# Altium footprint library Fancy.PcbLib: 119 footprints (part 6 of 8)
Each footprint in its own frame and in the unit in brackets; x right, y up, seen from the top. Pads: shape width x height; smd on the part's side, far side on the other; paste and mask are expansions set on the pad; w line width, h text height; cw(c..) or ccw(c..) is an arc to the next point about the centre after c.
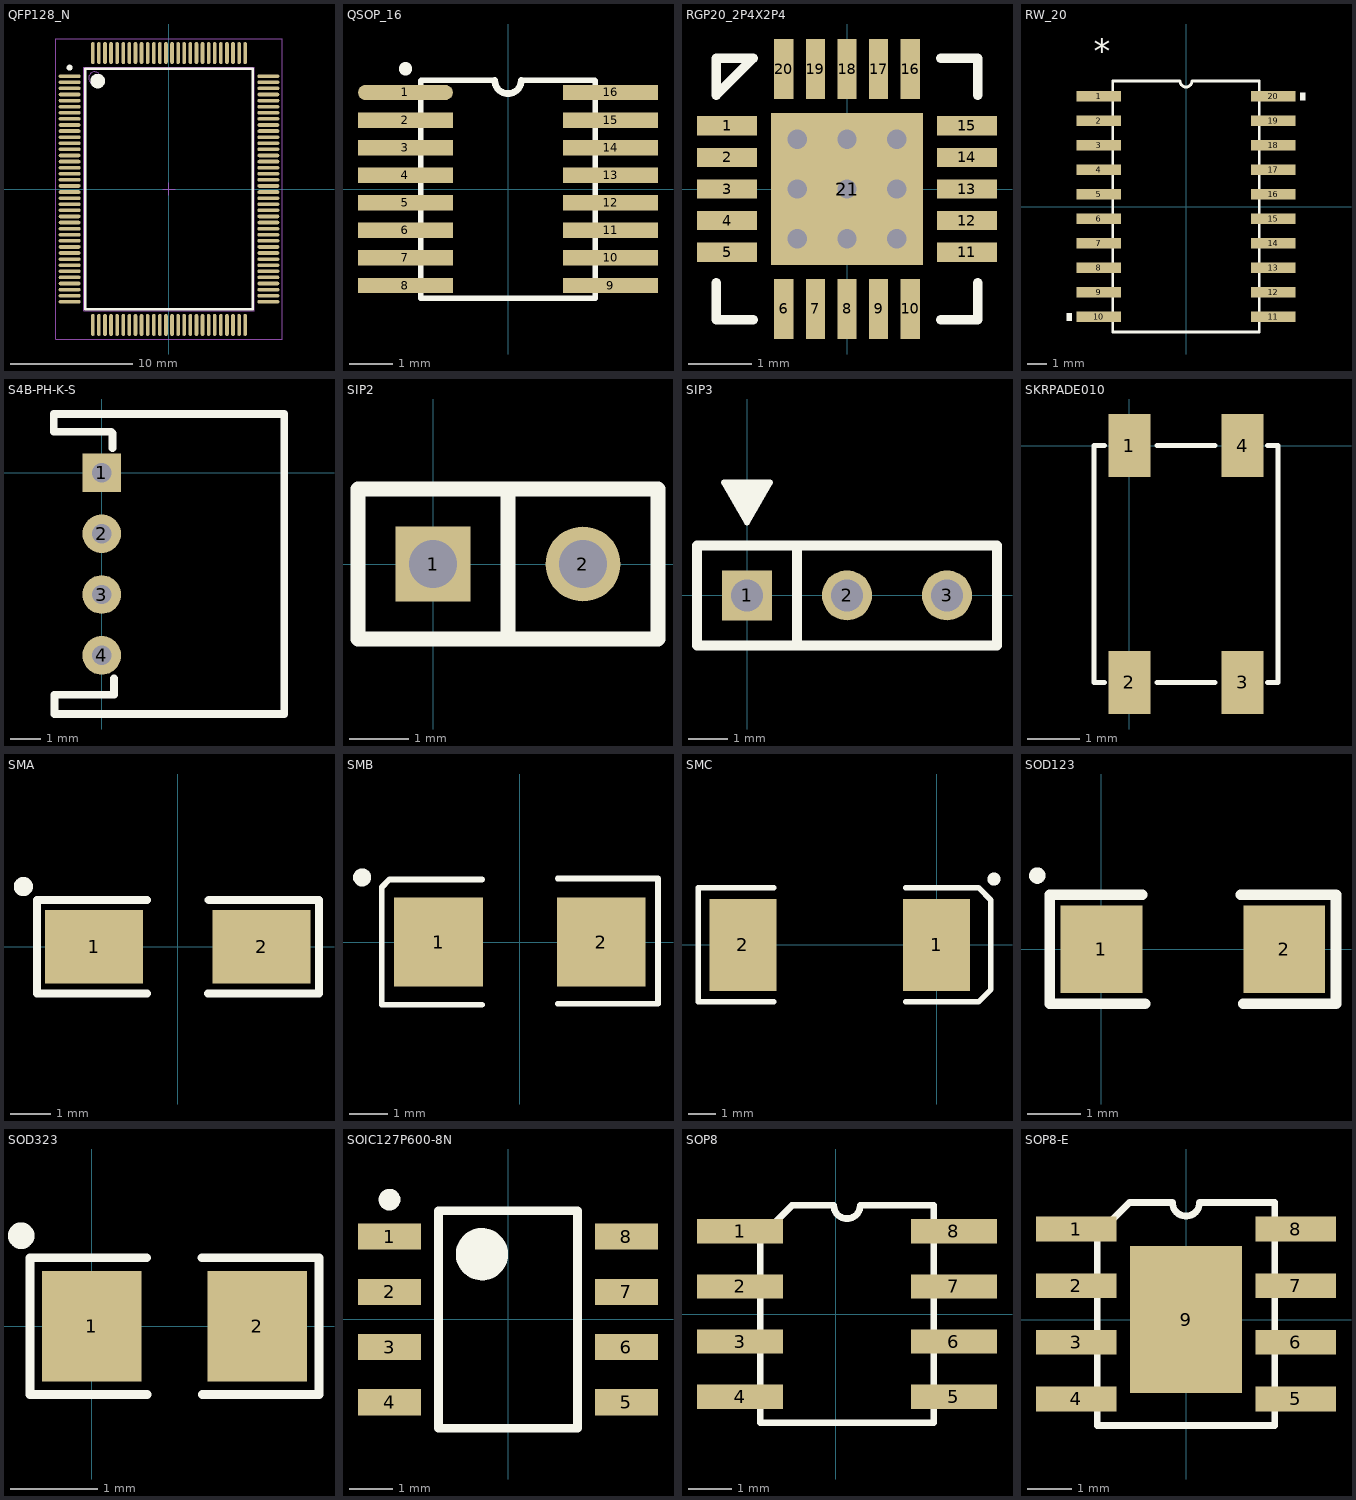
[diagram p5: the footprints below, top view; thin cyan lines are the x and y axes]

## QFP128_N [mm] "Shrink QFP, 128-Leads, Body 20x14 mm, Pitch 0.5mm, IPC Medium Density"
height 3.4
pads (128):
  oval 1.8x0.3 smd: 1(-8.15,9.25) 2(-8.15,8.75) 3(-8.15,8.25) 4(-8.15,7.75) 5(-8.15,7.25) 6(-8.15,6.75) 7(-8.15,6.25) 8(-8.15,5.75) 9(-8.15,5.25) 10(-8.15,4.75) 11(-8.15,4.25) 12(-8.15,3.75) 13(-8.15,3.25) 14(-8.15,2.75) 15(-8.15,2.25) 16(-8.15,1.75) 17(-8.15,1.25) 18(-8.15,0.75) 19(-8.15,0.25) 20(-8.15,-0.25) 21(-8.15,-0.75) 22(-8.15,-1.25) 23(-8.15,-1.75) 24(-8.15,-2.25) 25(-8.15,-2.75) 26(-8.15,-3.25) 27(-8.15,-3.75) 28(-8.15,-4.25) 29(-8.15,-4.75) 30(-8.15,-5.25) 31(-8.15,-5.75) 32(-8.15,-6.25) 33(-8.15,-6.75) 34(-8.15,-7.25) 35(-8.15,-7.75) 36(-8.15,-8.25) 37(-8.15,-8.75) 38(-8.15,-9.25) 65(8.15,-9.25) 66(8.15,-8.75) 67(8.15,-8.25) 68(8.15,-7.75) 69(8.15,-7.25) 70(8.15,-6.75) 71(8.15,-6.25) 72(8.15,-5.75) 73(8.15,-5.25) 74(8.15,-4.75) 75(8.15,-4.25) 76(8.15,-3.75) 77(8.15,-3.25) 78(8.15,-2.75) 79(8.15,-2.25) 80(8.15,-1.75) 81(8.15,-1.25) 82(8.15,-0.75) 83(8.15,-0.25) 84(8.15,0.25) 85(8.15,0.75) 86(8.15,1.25) 87(8.15,1.75) 88(8.15,2.25) 89(8.15,2.75) 90(8.15,3.25) 91(8.15,3.75) 92(8.15,4.25) 93(8.15,4.75) 94(8.15,5.25) 95(8.15,5.75) 96(8.15,6.25) 97(8.15,6.75) 98(8.15,7.25) 99(8.15,7.75) 100(8.15,8.25) 101(8.15,8.75) 102(8.15,9.25)
  oval 0.3x1.8 smd: 39(-6.25,-11.15) 40(-5.75,-11.15) 41(-5.25,-11.15) 42(-4.75,-11.15) 43(-4.25,-11.15) 44(-3.75,-11.15) 45(-3.25,-11.15) 46(-2.75,-11.15) 47(-2.25,-11.15) 48(-1.75,-11.15) 49(-1.25,-11.15) 50(-0.75,-11.15) 51(-0.25,-11.15) 52(0.25,-11.15) 53(0.75,-11.15) 54(1.25,-11.15) 55(1.75,-11.15) 56(2.25,-11.15) 57(2.75,-11.15) 58(3.25,-11.15) 59(3.75,-11.15) 60(4.25,-11.15) 61(4.75,-11.15) 62(5.25,-11.15) 63(5.75,-11.15) 64(6.25,-11.15) 103(6.25,11.15) 104(5.75,11.15) 105(5.25,11.15) 106(4.75,11.15) 107(4.25,11.15) 108(3.75,11.15) 109(3.25,11.15) 110(2.75,11.15) 111(2.25,11.15) 112(1.75,11.15) 113(1.25,11.15) 114(0.75,11.15) 115(0.25,11.15) 116(-0.25,11.15) 117(-0.75,11.15) 118(-1.25,11.15) 119(-1.75,11.15) 120(-2.25,11.15) 121(-2.75,11.15) 122(-3.25,11.15) 123(-3.75,11.15) 124(-4.25,11.15) 125(-4.75,11.15) 126(-5.25,11.15) 127(-5.75,11.15) 128(-6.25,11.15)
Top Overlay:
  circle w0.25: c-8.15,9.95 r0.125
  circle w0.6: c-5.85,8.85 r0.3
  lines w0.2: -6.85,-9.85 -6.85,9.85 6.85,9.85 6.85,-9.85 -6.85,-9.85
Mechanical 13:
  circle w0.1: c-6.1,9.1 r0.5
  lines w0.1: -7,-10 -7,10 7,10 7,-10 -7,-10
Mechanical 15:
  lines w0.1: -0.5,0 0.5,0 ; 0,-0.5 0,0.5 ; -9.3,-12.3 -9.3,12.3 9.3,12.3 9.3,-12.3 -9.3,-12.3
3D body: height 3, standoff 0, extent -7,-10 7,10

## QSOP_16 [mil]
pads (16):
  oval 86x14 smd mask+4: 1(-93,87.5)
  rect 86x14 smd mask+4: 2(-93,62.5) 3(-93,37.5) 4(-93,12.5) 5(-93,-12.5) 6(-93,-37.5) 7(-93,-62.5) 8(-93,-87.5) 9(93,-87.5) 10(93,-62.5) 11(93,-37.5) 12(93,-12.5) 13(93,12.5) 14(93,37.5) 15(93,62.5) 16(93,87.5)
Top Overlay:
  circle w10: c-93,109 r1
  lines w5: -78.5,-98.5 -79,-99 -79,98 -78.5,98.5 -37.63,98.5 -12,98.5 ; -78,-99 -37.13,-99 79,-99 79,98 78.5,98.5 37.63,98.5 12,98.5
  lines w6: -12,98.5 ccw(c0,98.5) 12,98.5

## RGP20_2P4X2P4 [mil]
pads (21):
  rect 37.5x12 smd: 1(-74.75,39.37) 2(-74.75,19.68) 3(-74.75,0) 4(-74.75,-19.68) 5(-74.75,-39.37) 11(74.75,-39.37) 12(74.75,-19.68) 13(74.75,0) 14(74.75,19.68) 15(74.75,39.37)
  rect 12x37.5 smd: 6(-39.37,-74.75) 7(-19.68,-74.75) 8(0,-74.75) 9(19.68,-74.75) 10(39.37,-74.75) 16(39.37,74.75) 17(19.68,74.75) 18(0,74.75) 19(-19.68,74.75) 20(-39.37,74.75)
  rect 95x95 smd paste-47 mask-47: 21(0,0)
via -31,31 diameter 24 hole 12
via 0,31 diameter 24 hole 12
via 31,31 diameter 24 hole 12
via 31,0 diameter 24 hole 12
via 0,0 diameter 24 hole 12
via -31,0 diameter 24 hole 12
via -31,-31 diameter 24 hole 12
via 0,-31 diameter 24 hole 12
via 31,-31 diameter 24 hole 12
Top Overlay:
  lines w6: -81.5,-58.47 -81.5,-81.5 -58.47,-81.5 ; 58.47,-81.5 81.5,-81.5 81.5,-58.47 ; 58.47,81.5 81.5,81.5 81.5,58.47 ; -81.5,58.47 -81.5,81.5 -58.47,81.5 -81.5,58.47
Top Paste:
  drawing of 16 lines, arcs and shapes, not listed
Top Solder:
  region: -50,38.87 -50,50 50,50 50,38.87
  region: -50,7.87 -50,23.13 50,23.13 50,7.87
  region: -50,-23.13 -50,-7.87 50,-7.87 50,-23.13
  region: -50,-50 -50,-38.87 50,-38.87 50,-50
  region: -50,-50 -50,50 -38.87,50 -38.87,-50
  region: -7.87,-50 -7.87,50 -23.13,50 -23.13,-50
  region: 23.13,-50 23.13,50 7.87,50 7.87,-50
  region: 38.87,-50 38.87,50 50,50 50,-50

## RW_20 [mil]
pads (20):
  rect 90.5x22 smd: 1(-178.25,225) 2(-178.25,175) 3(-178.25,125) 4(-178.25,75) 5(-178.25,25) 6(-178.25,-25) 7(-178.25,-75) 8(-178.25,-125) 9(-178.25,-175) 10(-178.25,-225) 11(178.25,-225) 12(178.25,-175) 13(178.25,-125) 14(178.25,-75) 15(178.25,-25) 16(178.25,25) 17(178.25,75) 18(178.25,125) 19(178.25,175) 20(178.25,225)
Top Overlay:
  region: 233.5,232.5 243.5,232.5 243.5,217.5 233.5,217.5
  region: -233.5,-217.5 -243.5,-217.5 -243.5,-232.5 -233.5,-232.5
  lines w6: -149.5,-256 -149.5,256 -12,256 ccw(c0,256) 12,256 149.5,256 149.5,-256 -149.5,-256
  text "*" at -188.25,292 h50

## S4B-PH-K-S [mm]
pads (4):
  rect 1.27x1.27 hole 0.635: 1(0,0)
  round 1.27 hole 0.635: 2(0,-2) 3(0,-4) 4(0,-6)
Top Overlay:
  lines w0.254: 0.356,0.813 0.356,1.295 0.305,1.346 -1.575,1.346 -1.575,1.93 5.994,1.93 5.994,-7.925 -1.549,-7.925 -1.549,-7.29 0.076,-7.29 0.406,-7.29 0.406,-6.756

## SIP2 [mil]
pads (2):
  rect 50x50 hole 32: 1(0,0)
  round 50 hole 32: 2(100,0)
Top Overlay:
  lines w10: 50,-50 50,50 ; -50,-50 150,-50 150,50 -50,50 -50,-50

## SIP3 [mil]
pads (3):
  rect 50x50 hole 32: 1(0,0)
  round 50 hole 32: 2(100,0) 3(200,0)
Top Overlay:
  lines w6: -18,108 19,108 ; -17,104 16,104 ; -14,99 13,99 ; -12,94 12,94 ; -9,89 7,89 ; -4,84 5,84 ; -3,79 2,79 ; -23,112.8 0,73 ; -23,112.8 23,112.8 ; -23,112.8 23,112.8 ; -23,112.8 0,73 ; 0,73 23,112.8 ; 0,73 23,112.8
  lines w10: 50,-50 50,50 ; -50,-50 250,-50 250,50 -50,50 -50,-50

## SKRPADE010 [mil]
pads (4):
  rect 31.5x47.24 smd paste+0 mask+4: 1(0,0) 2(0,-177.16) 3(84.64,-177.16) 4(84.64,0)
Top Overlay:
  lines w3.94: -18.71,-177.16 -26.58,-177.16 -26.58,0 -18.71,0 ; 20.66,-177.16 63.97,-177.16 ; 20.66,0 63.97,0 ; 103.34,-177.16 111.22,-177.16 111.22,0 103.34,0

## SMA [mm] "DO-214-AC/SMA; 2 C-Bend Leads; Body 5 x 2.7 mm, inc. leads (LxW)"
height 2.44
pads (2):
  rect 2.4x1.8 smd: 1(-2.05,0) 2(2.05,0)
Top Overlay:
  circle w0.254: c-3.785,1.473 r0.108
  lines w0.2: -0.754,-1.143 -3.454,-1.143 -3.454,1.143 -0.754,1.143 ; 0.737,-1.143 3.437,-1.143 ; 0.754,1.143 3.454,1.143 3.454,-1.143

## SMB [mm] "DO-214-AA/SMB; 2 C-Bend Leads; Body 5.3 x 3.6 mm, inc. leads (LxW)"
height 2.54
pads (2):
  rect 2.3x2.3 smd: 1(-2.108,0) 2(2.108,0)
Top Overlay:
  circle w0.254: c-4.089,1.676 r0.108
  lines w0.152: -0.981,-1.626 -3.581,-1.626 -3.581,1.422 -3.378,1.626 -0.981,1.626 ; 0.981,-1.6 3.581,-1.6 3.581,1.651 0.981,1.651

## SMC [mm] "DO-214-AB/SMC; 2 C-Bend Leads; Body 7.9 x 5.9 mm, inc. leads (LxW)"
height 2.57
pads (2):
  rect 2.4x3.3 smd: 1(0,0) 2(-6.95,0)
Top Overlay:
  circle w0.254: c2.062,2.362 r0.108
  lines w0.2: -5.85,-2.05 -8.55,-2.05 -8.55,2.05 -5.85,2.05 ; -1.1,-2.05 1.5,-2.05 1.95,-1.6 1.95,1.6 1.5,2.055 ; -1.1,2.05 1.5,2.05

## SOD123 [mil]
pads (2):
  rect 60x64 smd: 1(0,0) 2(134,0)
Top Overlay:
  circle w10: c-47,54 r1
  lines w7.87: 29.93,40 -38,40 -38,-40 31.93,-40 ; 102.07,40 172,40 172,-40 104.07,-40

## SOD323 [mil]
pads (2):
  rect 45x50 smd: 1(0,0) 2(75,0)
Top Overlay:
  circle w10: c-32,41 r1
  lines w3.94: 25,-31 -28,-31 -28,31 24.98,31 ; 50.02,-31 103,-31 103,31 50,31

## SOIC127P600-8N [mm]
height 2.65
pads (8):
  rect 1.45x0.6 smd: 1(-2.725,1.905) 2(-2.725,0.635) 3(-2.725,-0.635) 4(-2.725,-1.905) 5(2.725,-1.905) 6(2.725,-0.635) 7(2.725,0.635) 8(2.725,1.905)
Top Overlay:
  circle w0.25: c-2.725,2.755 r0.125
  circle w0.6: c-0.6,1.5 r0.3
  lines w0.2: -1.6,-2.5 -1.6,2.5 1.6,2.5 1.6,-2.5 -1.6,-2.5

## SOP8 [mil]
pads (8):
  rect 78x22 smd: 1(-87,75) 2(-87,25) 3(-87,-25) 4(-87,-75) 5(107,-75) 6(107,-25) 7(107,25) 8(107,75)
Top Overlay:
  lines w6: -68.5,70 -68.5,-98.5 -44.08,-98.5 64.08,-98.5 88.5,-98.5 88.5,98.5 22,98.5 cw(c10,98.5) -2,98.5 -40,98.5 ; -68.5,70 -40,98.5 ; -68.5,70 -40,98.5

## SOP8-E [mil]
pads (9):
  rect 71.06x22 smd: 1(-97,80) 2(-97,30) 3(-97,-20) 4(-97,-70) 5(97,-70) 6(97,-20) 7(97,30) 8(97,80)
  rect 99.21x129.92 smd mask+4: 9(0,0)
Top Overlay:
  lines w6: -78.5,75 -50,103.5 ; -78.5,75 -78.5,-93.5 -54.08,-93.5 54.08,-93.5 78.5,-93.5 78.5,103.5 12,103.5 cw(c0,103.5) -12,103.5 -50,103.5 ; -78.5,75 -50,103.5